# Altium footprint library PcbLib1.PcbLib: 12 footprints
Each footprint in its own frame and in the unit in brackets; x right, y up, seen from the top. Pads: shape width x height; smd on the part's side, far side on the other; paste and mask are expansions set on the pad; w line width, h text height; cw(c..) or ccw(c..) is an arc to the next point about the centre after c.
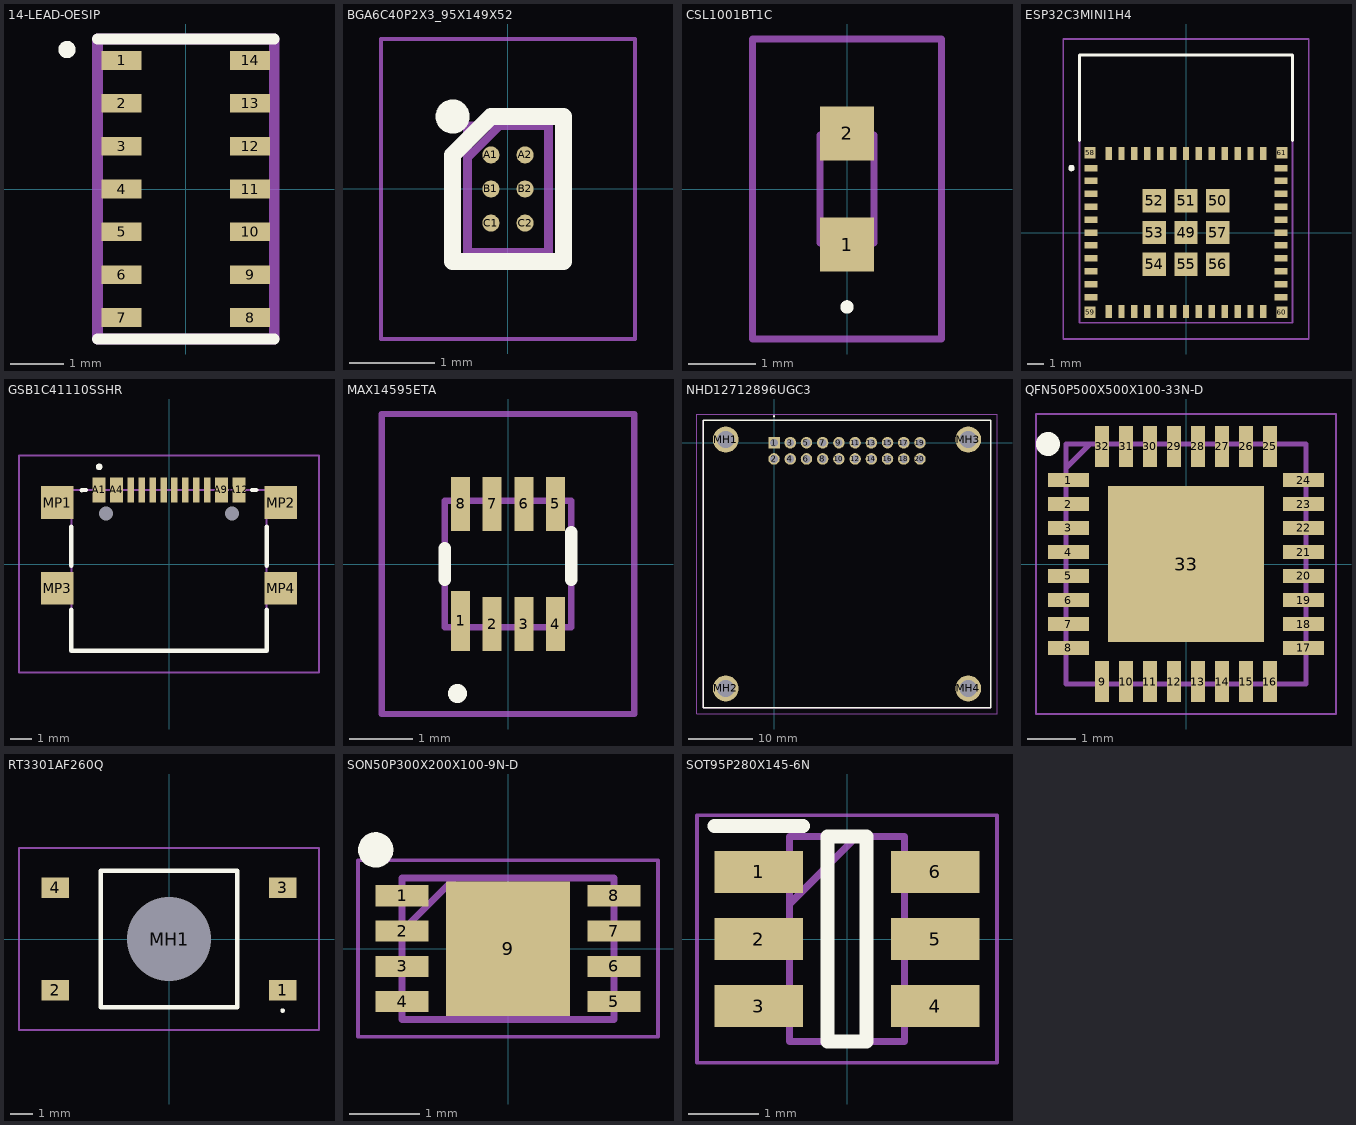
[diagram p0: the footprints below, top view; thin cyan lines are the x and y axes]

## 14-LEAD-OESIP [mm]
pads (14):
  rect 0.75x0.35 smd: 1(-1.2,2.4) 2(-1.2,1.6) 3(-1.2,0.8) 4(-1.2,0) 5(-1.2,-0.8) 6(-1.2,-1.6) 7(-1.2,-2.4) 8(1.2,-2.4) 9(1.2,-1.6) 10(1.2,-0.8) 11(1.2,0) 12(1.2,0.8) 13(1.2,1.6) 14(1.2,2.4)
Top Overlay:
  circle w0.2: c-2.219,2.603 r0.06
  lines w0.2: -1.65,-2.8 1.65,-2.8 ; -1.65,2.8 1.65,2.8
Mechanical 13:
  lines w0.2: -1.65,-2.8 1.65,-2.8 1.65,2.8 -1.65,2.8 -1.65,-2.8
3D body "MAX30102EFD+.stp": height 1.3, standoff -0.03, extent -1.4,-2.8 1.4,2.8

## BGA6C40P2X3_95X149X52 [mm]
pads (6):
  round 0.2 smd: A1(-0.2,0.4) A2(0.2,0.4) B1(-0.2,0) B2(0.2,0) C1(-0.2,-0.4) C2(0.2,-0.4)
Top Overlay:
  circle w0.2: c-0.65,0.85 r0.1
  lines w0.2: -0.65,-0.85 -0.65,0.4 -0.2,0.85 0.65,0.85 0.65,-0.85 -0.65,-0.85
Mechanical 13:
  lines w0.1: -0.475,0.364 -0.095,0.744 ; -0.475,-0.744 -0.475,0.744 0.475,0.744 0.475,-0.744 -0.475,-0.744
Mechanical 15:
  lines w0.05: -1.49,-1.759 -1.49,1.759 1.49,1.759 1.49,-1.759 -1.49,-1.759
3D body "TMP119AIYBGR.stp": height 0.53, standoff 0, extent -0.475,-0.744 0.475,0.744

## CSL1001BT1C [mm]
pads (2):
  rect 0.8x0.8 smd: 1(0,-0.825) 2(0,0.825)
Top Overlay:
  lines w0.1: 0,-1.8 ccw(c0,-1.75) 0,-1.7 ccw(c0,-1.75) 0,-1.8
Mechanical 13:
  lines w0.1: -0.4,-0.8 -0.4,0.8 0.4,0.8 0.4,-0.8 -0.4,-0.8
Mechanical 15:
  lines w0.1: -1.4,-2.225 -1.4,2.225 1.4,2.225 1.4,-2.225 -1.4,-2.225
3D body "CSL1001BT1C.stp": height 1.26, standoff 0, extent -0.4,-0.8 0.4,0.8

## ESP32C3MINI1H4 [mm]
pads (61):
  rect 0.8x0.4 smd: 1(-5.9,4) 2(-5.9,3.2) 3(-5.9,2.4) 4(-5.9,1.6) 5(-5.9,0.8) 6(-5.9,0) 7(-5.9,-0.8) 8(-5.9,-1.6) 9(-5.9,-2.4) 10(-5.9,-3.2) 11(-5.9,-4) 25(5.9,-4) 26(5.9,-3.2) 27(5.9,-2.4) 28(5.9,-1.6) 29(5.9,-0.8) 30(5.9,0) 31(5.9,0.8) 32(5.9,1.6) 33(5.9,2.4) 34(5.9,3.2) 35(5.9,4)
  rect 0.4x0.8 smd: 12(-4.8,-4.9) 13(-4,-4.9) 14(-3.2,-4.9) 15(-2.4,-4.9) 16(-1.6,-4.9) 17(-0.8,-4.9) 18(0,-4.9) 19(0.8,-4.9) 20(1.6,-4.9) 21(2.4,-4.9) 22(3.2,-4.9) 23(4,-4.9) 24(4.8,-4.9) 36(4.8,4.9) 37(4,4.9) 38(3.2,4.9) 39(2.4,4.9) 40(1.6,4.9) 41(0.8,4.9) 42(0,4.9) 43(-0.8,4.9) 44(-1.6,4.9) 45(-2.4,4.9) 46(-3.2,4.9) 47(-4,4.9) 48(-4.8,4.9)
  rect 1.45x1.45 smd: 49(0,0) 50(1.975,1.975) 51(0,1.975) 52(-1.975,1.975) 53(-1.975,0) 54(-1.975,-1.975) 55(0,-1.975) 56(1.975,-1.975) 57(1.975,0)
  rect 0.7x0.7 smd: 58(-5.95,4.95) 59(-5.95,-4.95) 60(5.95,-4.95) 61(5.95,4.95)
Top Overlay:
  lines w0.2: -6.6,5.7 -6.6,11 6.6,11 6.6,5.7 ; -7.2,4 ccw(c-7.1,4) -7,4 ccw(c-7.1,4) -7.2,4
Mechanical 13:
  lines w0.1: -6.6,-5.6 -6.6,11 6.6,11 6.6,-5.6 -6.6,-5.6
Mechanical 15:
  lines w0.1: -7.6,-6.6 -7.6,12 7.6,12 7.6,-6.6 -7.6,-6.6
3D body "ESP32-C3-MINI-1-H4.stp": height 2.4, standoff 0, extent -6.6,-5.6 6.6,11

## GSB1C41110SSHR [mm]
pads (18):
  rect 0.6x1.15 smd: A1(-3.2,3.39) A4(-2.4,3.39) A9(2.4,3.39) A12(3.2,3.39)
  rect 0.3x1.15 smd: A5(-1.25,3.39) A6(-0.25,3.39) A7(0.25,3.39) A8(1.25,3.39) B5(1.75,3.39) B6(0.75,3.39) B7(-0.75,3.39) B8(-1.75,3.39)
  round 0.325 hole 0.65 unplated: MH1(-2.89,2.315) MH2(2.89,2.315)
  rect 1.5x1.5 smd: MP1(-5.12,2.815) MP2(5.12,2.815) MP3(-5.12,-1.115) MP4(5.12,-1.115)
Top Overlay:
  lines w0.2: -4.47,-2.088 -4.47,-3.965 4.47,-3.965 4.47,-2.088 ; -4.47,-0.088 -4.47,1.712 ; -4,3.385 -3.8,3.39 ; 3.8,3.39 4,3.39 ; 4.47,-0.088 4.47,1.712 ; -3.2,4.4 cw(c-3.2,4.45) -3.2,4.5 ; -3.2,4.4 ccw(c-3.2,4.45) -3.2,4.5 ; -3.2,4.4 cw(c-3.2,4.45) -3.2,4.5
Mechanical 13:
  lines w0.1: -4.47,-3.965 4.47,-3.965 4.47,3.385 -4.47,3.385 -4.47,-3.965
Mechanical 15:
  lines w0.1: -6.87,-4.965 6.87,-4.965 6.87,4.965 -6.87,4.965 -6.87,-4.965
3D body "GSB1C41110SSHR.stp": height 3.12, standoff -0.76, extent -5.67,-4.088 5.67,3.51

## MAX14595ETA [mm]
pads (8):
  rect 0.3x0.95 smd: 1(-0.75,-0.9)
  rect 0.3x0.85 smd: 2(-0.25,-0.95) 3(0.25,-0.95) 4(0.75,-0.95) 5(0.75,0.95) 6(0.25,0.95) 7(-0.25,0.95) 8(-0.75,0.95)
Top Overlay:
  lines w0.2: -0.8,-2.1 ccw(c-0.8,-2.05) -0.8,-2 ; -0.8,-2.1 cw(c-0.8,-2.05) -0.8,-2 ; -0.8,-2.1 ccw(c-0.8,-2.05) -0.8,-2 ; -1,-0.25 -1,0.25 -1,-0.25 ; 1,-0.25 1,0.5 1,-0.25
Mechanical 13:
  lines w0.1: -1,-1 1,-1 1,1 -1,1 -1,-1
Mechanical 15:
  lines w0.1: -2,-2.375 2,-2.375 2,2.375 -2,2.375 -2,-2.375
3D body "MAX14595ETA+.stp": height 0.9, standoff 0, extent -1,-1 1,1

## NHD12712896UGC3 [mm]
pads (24):
  rect 1.8x1.8 hole 1.2: 1(0,0)
  round 1.8 hole 1.2: 2(0,-2.54) 3(2.54,0) 4(2.54,-2.54) 5(5.08,0) 6(5.08,-2.54) 7(7.62,0) 8(7.62,-2.54) 9(10.16,0) 10(10.16,-2.54) 11(12.7,0) 12(12.7,-2.54) 13(15.24,0) 14(15.24,-2.54) 15(17.78,0) 16(17.78,-2.54) 17(20.32,0) 18(20.32,-2.54) 19(22.86,0) 20(22.86,-2.54)
  round 4.05 hole 2.7: MH1(-7.57,0.5) MH2(-7.57,-38.5) MH3(30.43,0.5) MH4(30.43,-38.5)
Top Overlay:
  lines w0.2: 0,4.1 ccw(c0,4.15) 0,4.2 ; 0,4.1 cw(c0,4.15) 0,4.2 ; 0,4.1 ccw(c0,4.15) 0,4.2 ; -11.07,-41.5 -11.07,3.5 33.93,3.5 33.93,-41.5 -11.07,-41.5
Mechanical 13:
  lines w0.1: -11.07,-41.5 -11.07,3.5 33.93,3.5 33.93,-41.5 -11.07,-41.5
Mechanical 15:
  lines w0.1: -12.07,-42.5 -12.07,4.5 34.93,4.5 34.93,-42.5 -12.07,-42.5
3D body "NHD-1.27-12896UGC3.stp": height 5.5, standoff -5, extent -11.07,-41.5 33.93,3.5

## PCBComponent_1 [mm]

## QFN50P500X500X100-33N-D [mm]
pads (33):
  rect 0.85x0.3 smd: 1(-2.45,1.75) 2(-2.45,1.25) 3(-2.45,0.75) 4(-2.45,0.25) 5(-2.45,-0.25) 6(-2.45,-0.75) 7(-2.45,-1.25) 8(-2.45,-1.75) 17(2.45,-1.75) 18(2.45,-1.25) 19(2.45,-0.75) 20(2.45,-0.25) 21(2.45,0.25) 22(2.45,0.75) 23(2.45,1.25) 24(2.45,1.75)
  rect 0.3x0.85 smd: 9(-1.75,-2.45) 10(-1.25,-2.45) 11(-0.75,-2.45) 12(-0.25,-2.45) 13(0.25,-2.45) 14(0.75,-2.45) 15(1.25,-2.45) 16(1.75,-2.45) 25(1.75,2.45) 26(1.25,2.45) 27(0.75,2.45) 28(0.25,2.45) 29(-0.25,2.45) 30(-0.75,2.45) 31(-1.25,2.45) 32(-1.75,2.45)
  rect 3.25x3.25 smd: 33(0,0)
Top Overlay:
  circle w0.25: c-2.875,2.5 r0.125
Mechanical 13:
  lines w0.1: -2.5,2 -2,2.5 ; -2.5,-2.5 -2.5,2.5 2.5,2.5 2.5,-2.5 -2.5,-2.5
Mechanical 15:
  lines w0.05: -3.125,-3.125 -3.125,3.125 3.125,3.125 3.125,-3.125 -3.125,-3.125
3D body "CLRC66302HN,151.stp": height 1, standoff 0, extent -2.55,-2.55 2.55,2.55

## RT3301AF260Q [mm]
pads (5):
  rect 1.2x0.9 smd: 1(5,-2.25) 2(-5,-2.25) 3(5,2.25) 4(-5,2.25)
  round 1.85 hole 3.7 unplated: MH1(0,0)
Top Overlay:
  lines w0.1: 5,-3.2 cw(c5,-3.15) 5,-3.1 cw(c5,-3.15) 5,-3.2
  lines w0.2: -3,-3 -3,3 3,3 3,-3 -3,-3
Mechanical 13:
  lines w0.1: -3,-3 -3,3 3,3 3,-3 -3,-3
Mechanical 15:
  lines w0.1: -6.6,-4 -6.6,4 6.6,4 6.6,-4 -6.6,-4
3D body "RT3301AF260Q.stp": height 3.86, standoff -1.04, extent -5.01,-2.952 4.99,3.052

## SON50P300X200X100-9N-D [mm]
pads (9):
  rect 0.75x0.3 smd: 1(-1.5,0.75) 2(-1.5,0.25) 3(-1.5,-0.25) 4(-1.5,-0.75) 5(1.5,-0.75) 6(1.5,-0.25) 7(1.5,0.25) 8(1.5,0.75)
  rect 1.75x1.9 smd: 9(0,0)
Top Overlay:
  circle w0.25: c-1.875,1.4 r0.125
Mechanical 13:
  lines w0.1: -1.5,0.25 -0.75,1 ; -1.5,-1 -1.5,1 1.5,1 1.5,-1 -1.5,-1
Mechanical 15:
  lines w0.05: -2.125,-1.25 -2.125,1.25 2.125,1.25 2.125,-1.25 -2.125,-1.25
3D body "MCP73831-2DCI_MC.stp": height 1, standoff 0, extent -1.55,-1 1.55,1

## SOT95P280X145-6N [mm]
pads (6):
  rect 1.25x0.6 smd: 1(-1.25,0.95) 2(-1.25,0) 3(-1.25,-0.95) 4(1.25,-0.95) 5(1.25,0) 6(1.25,0.95)
Top Overlay:
  lines w0.2: -1.875,1.6 -0.625,1.6 ; -0.275,-1.45 -0.275,1.45 0.275,1.45 0.275,-1.45 -0.275,-1.45
Mechanical 13:
  lines w0.1: -0.812,0.5 0.138,1.45 ; -0.812,-1.45 -0.812,1.45 0.812,1.45 0.812,-1.45 -0.812,-1.45
Mechanical 15:
  lines w0.05: -2.125,-1.75 -2.125,1.75 2.125,1.75 2.125,-1.75 -2.125,-1.75
3D body "MAX1921EUT18+.stp": height 1.45, standoff 0, extent -1.4,-1.45 1.4,1.45